# Altium footprint library DFN.PcbLib: 1 footprints
Each footprint in its own frame and in the unit in brackets; x right, y up, seen from the top. Pads: shape width x height; smd on the part's side, far side on the other; paste and mask are expansions set on the pad; w line width, h text height; cw(c..) or ccw(c..) is an arc to the next point about the centre after c.
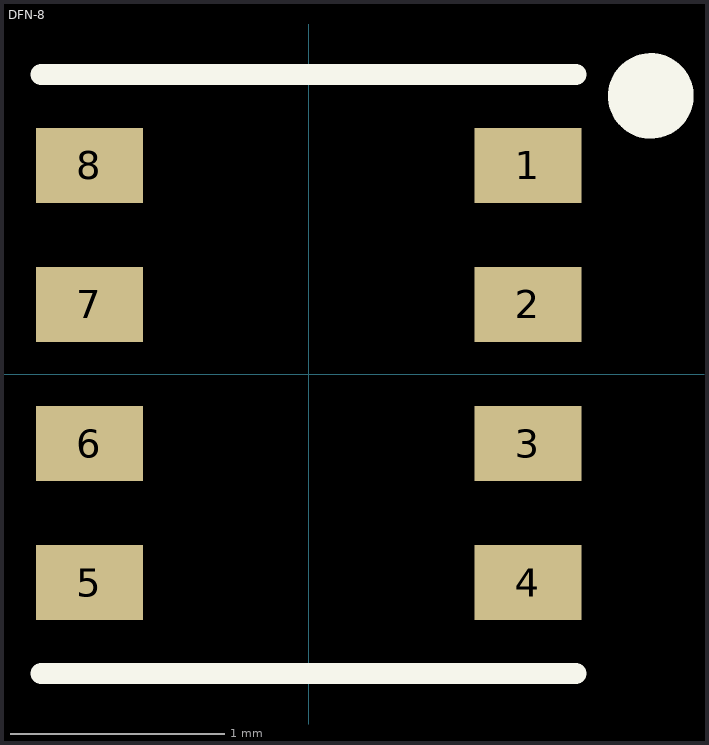
[diagram p0: the footprint, top view; thin cyan lines are the x and y axes]

## DFN-8 [mm] "BOSH SENSORTECH TEMP/PRESS/HUMID SENSOR"
pads (8):
  rect 0.5x0.35 smd: 1(1.025,0.975) 2(1.025,0.325) 3(1.025,-0.325) 4(1.025,-0.975) 5(-1.025,-0.975) 6(-1.025,-0.325) 7(-1.025,0.325) 8(-1.025,0.975)
Top Overlay:
  circle w0.2: c1.6,1.3 r0.1
  lines w0.1: -1.25,-1.4 1.25,-1.4 ; -1.25,1.4 1.25,1.4
3D body: height 0.93, standoff 0, extent -1.25,-1.25 1.25,1.25